# Altium integrated library C5S-8.000-16-3030-X-R.IntLib: 1 symbol
Pins are listed as number, name and electrical type; pins without a type are passive.

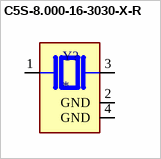
[diagram p0: symbol C5S-8.000-16-3030-X-R]

## C5S-8.000-16-3030-X-R
designator Y?
8 MHz Â±30ppm Crystal 16pF 70 Ohms 4-SMD, No Lead; MF: Aker Technology USA; MP: C5S-8.000-16-3030-X-R; SnapEDA_Link: https://www.snapeda.com/parts/C5S-8.000-16-3030-X-R/Aker/view-part/?ref=snap; Package: SMD-4 AKER; Value: *; Check_prices: https://www.snapeda.com/parts/C5S-8.000-16-3030-X-R/Aker/view-part/?ref=eda
footprint XTAL_C5S-8.000-16-3030-X-R
pins: 1, 2 GND (power), 3 2, 4 GND (power)